# Altium schematic symbol library CAP(10uF, 0805,10V, CER, X7R).SchLib: 1 symbol
Pins are listed as number, name and electrical type; pins without a type are passive.

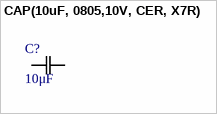
[diagram p0: symbol CAP(10uF, 0805,10V, CER, X7R)]

## CAP(10uF, 0805,10V, CER, X7R)
designator C?, comment 10μF
SMD capacitor X7R(EIA) with capacitance 10uF Tol.10%. Rated voltage 10Vdc 125C; Manufacturer: Murata Electronics; Manufacturer_PN: GRM21BR71A106KA73L; Datasheet: https://search.murata.co.jp/Ceramy/image/img/A01X/G101/ENG/GRM21BR71A106KA73-01.pdf; Digikey_Link: https://www.digikey.it/en/products/detail/murata-electronics/GRM21BR71A106KA73L/5027600?s=N4IgTCBcDaIOICUCyYCMAhBB2VBBVADAGwDSuWAzADIgC6AvkA
footprint CAPC2012X140N
pins: 1, 2